# EAGLE library part ESP32-C3FH4X (library ESP32-C3FH4X)
RF System on a Chip - SoC ESP32-C3FH4X is an low-power and highly-integrated MCU-based solution that supports 2.4 GHz Wi-Fi and Bluetooth Low Energy (Bluetooth LE) Source: Datasheet <https://www.espressif.com/sites/default/files/documentation/esp32-c3_datasheet_en.pdf>
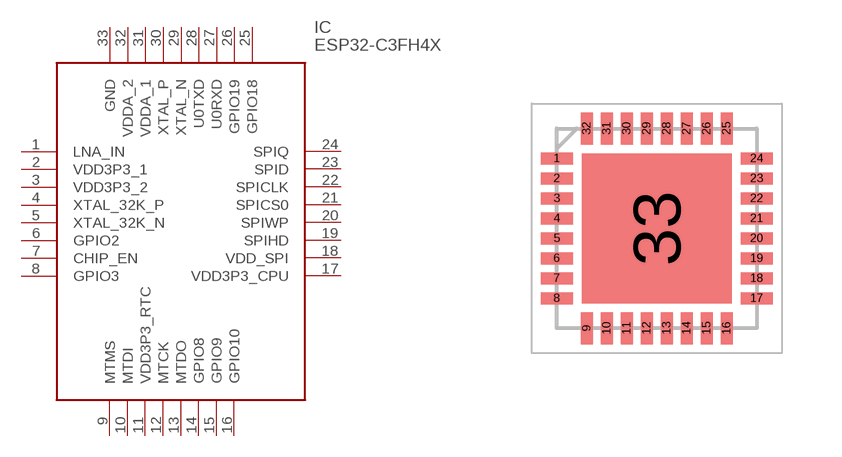
[diagram p0: symbol with the pads of QFN50P500X500X90-33N; footprint QFN50P500X500X90-33N]

Designator prefix IC

## ESP32-C3FH4X (Description: RF System on a Chip - SoC ESP32-C3FH4X is an low-power and highly-integrated MCU-based solution that supports 2.4 GHz Wi-Fi and Bluetooth Low Energy (Bluetooth LE); Height: 0.9mm; Manufacturer_Name: Espressif Systems; Manufacturer_Part_Number: ESP32-C3FH4X; Mouser_Part_Number: 356-ESP32-C3FH4X; Mouser_Price-Stock: https://www.mouser.co.uk/ProductDetail/Espressif-Systems/ESP32-C3FH4X?qs=i8QVZAFTkqTBHNQ1W71daA%3D%3D)  [QFN50P500X500X90-33N]
1  LNA_IN
2  VDD3P3_1
3  VDD3P3_2
4  XTAL_32K_P
5  XTAL_32K_N
6  GPIO2
7  CHIP_EN
8  GPIO3
9  MTMS
10  MTDI
11  VDD3P3_RTC
12  MTCK
13  MTDO
14  GPIO8
15  GPIO9
16  GPIO10
17  VDD3P3_CPU
18  VDD_SPI
19  SPIHD
20  SPIWP
21  SPICS0
22  SPICLK
23  SPID
24  SPIQ
25  GPIO18
26  GPIO19
27  U0RXD
28  U0TXD
29  XTAL_N
30  XTAL_P
31  VDDA_1
32  VDDA_2
33  GND

## Footprint QFN50P500X500X90-33N (pad centres in mm)
32-pin QFN
smd 0.8 x 0.3: 1 -2.5,1.75; 2 -2.5,1.25; 3 -2.5,0.75; 4 -2.5,0.25; 5 -2.5,-0.25; 6 -2.5,-0.75; 7 -2.5,-1.25; 8 -2.5,-1.75; 17 2.5,-1.75; 18 2.5,-1.25; 19 2.5,-0.75; 20 2.5,-0.25; 21 2.5,0.25; 22 2.5,0.75; 23 2.5,1.25; 24 2.5,1.75
smd 0.3 x 0.8: 9 -1.75,-2.5; 10 -1.25,-2.5; 11 -0.75,-2.5; 12 -0.25,-2.5; 13 0.25,-2.5; 14 0.75,-2.5; 15 1.25,-2.5; 16 1.75,-2.5; 25 1.75,2.5; 26 1.25,2.5; 27 0.75,2.5; 28 0.25,2.5; 29 -0.25,2.5; 30 -0.75,2.5; 31 -1.25,2.5; 32 -1.75,2.5
smd 3.75 x 3.75: 33 0,0